# Altium schematic symbol library schematic_library.SchLib: 199 symbols (part 2 of 2)
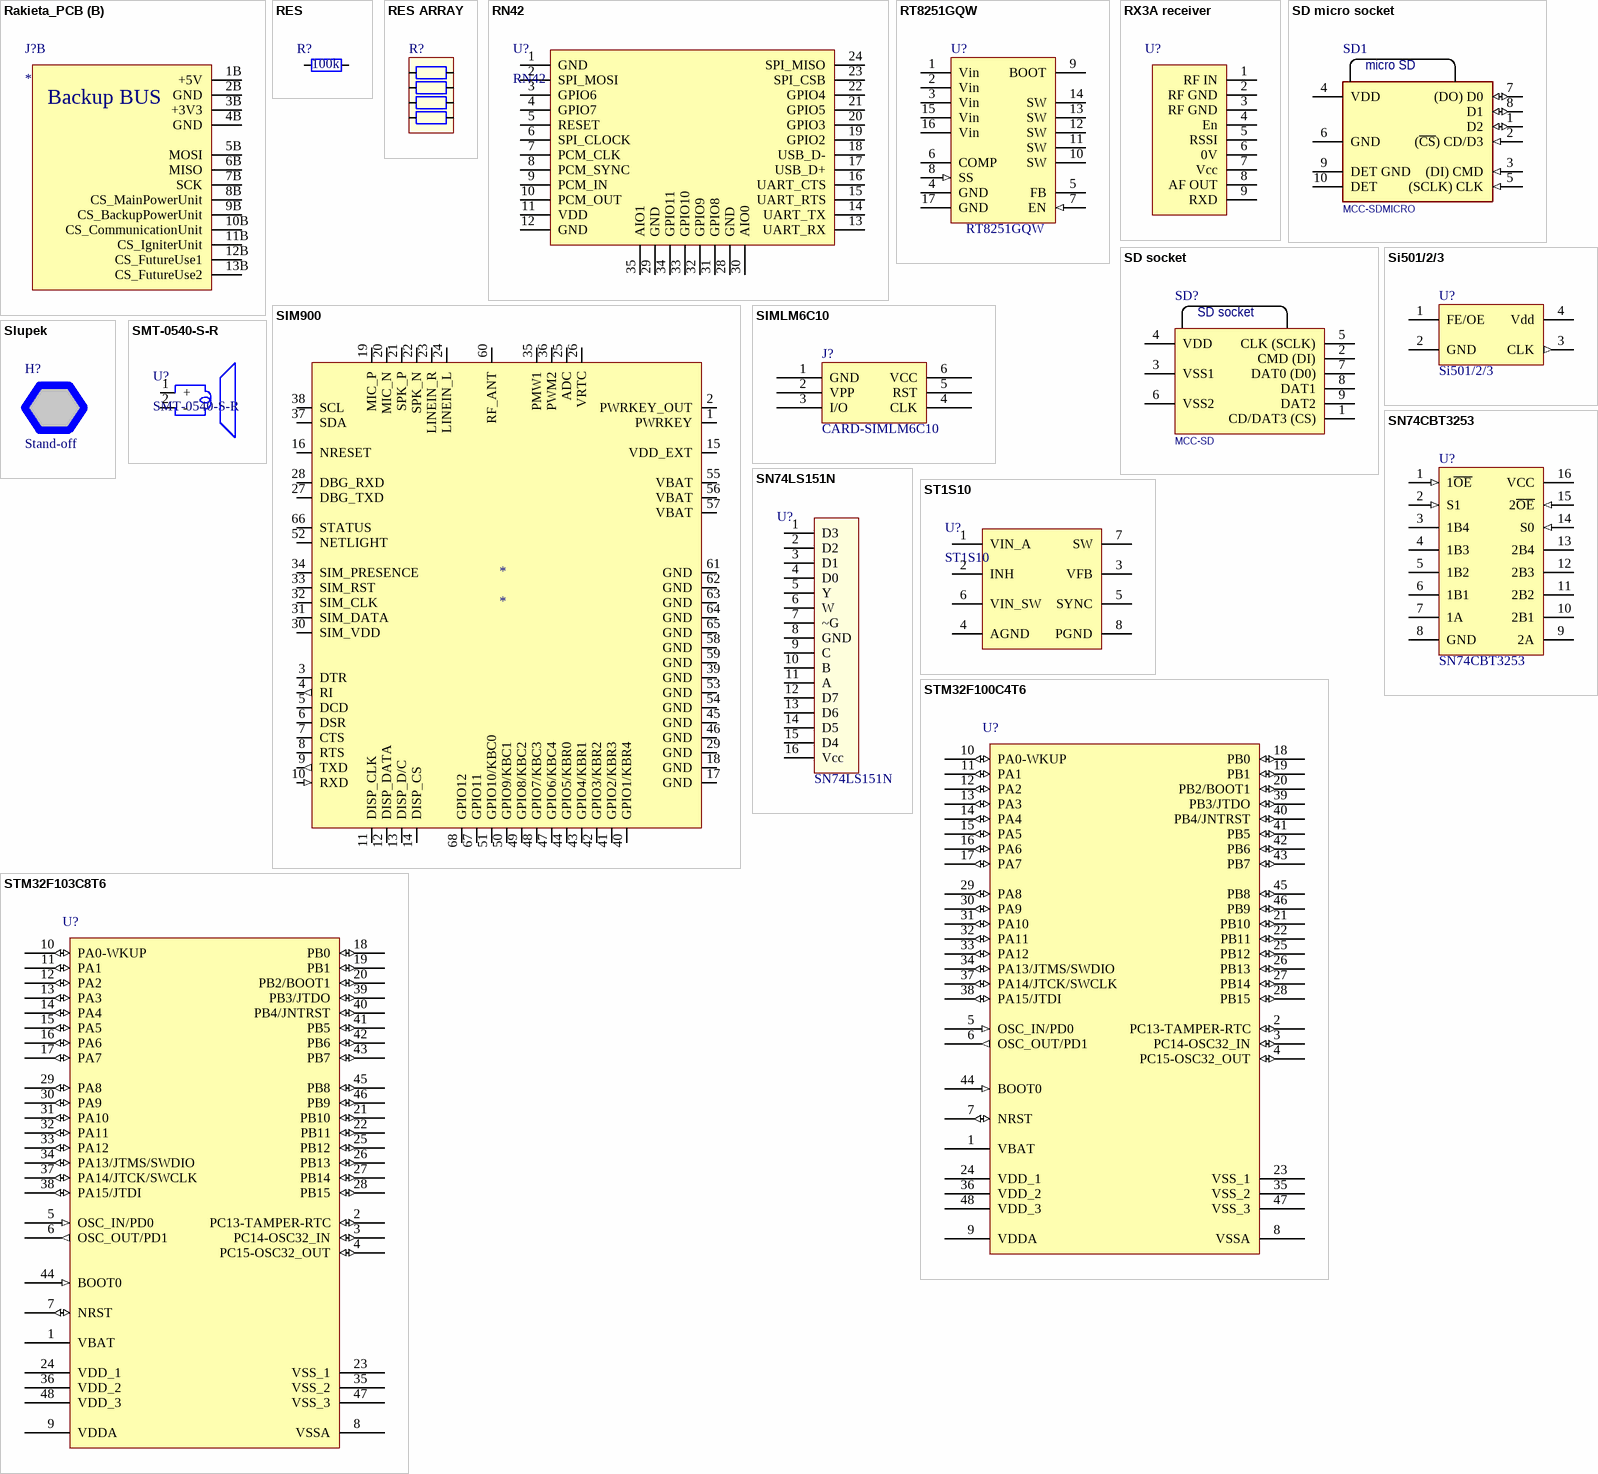
[diagram p7: symbols Rakieta_PCB to STM32F103C8T6]

## SD socket
designator SD?, comment MCC-SD
podstawka SD, TME Producent: ATTEND Oznaczenie producenta: 104C-TAA0-R
footprint SD (SD card slot)
pins: 1 CD/DAT3 (CS), 2 CMD (DI), 3 VSS1 (power), 4 VDD (power), 5 CLK (SCLK), 6 VSS2 (power), 7 DAT0 (D0), 8 DAT1, 9 DAT2

## Si501/2/3
designator U?
32 KHZ–100 MHZ CMEMS OSCILLATOR; Created by: Piotr Błachnio
footprint DFN-4 (2x2.5) (2 x 2.5 mm 4-pin DFN)
pins: 1 FE/OE, 2 GND (power), 3 CLK (out), 4 Vdd (power)

## SIM900
designator *
footprint SIM900
pins: 1 PWRKEY, 2 PWRKEY_OUT, 3 DTR, 4 RI (out), 5 DCD, 6 DSR, 7 CTS, 8 RTS, 9 TXD (out), 10 RXD (in), 11 DISP_CLK, 12 DISP_DATA, 13 DISP_D/C, 14 DISP_CS, 15 VDD_EXT, 16 NRESET, 17 GND, 18 GND, 19 MIC_P, 20 MIC_N, 21 SPK_P, 22 SPK_N, 23 LINEIN_R, 24 LINEIN_L, 25 ADC, 26 VRTC, 27 DBG_TXD, 28 DBG_RXD, 29 GND, 30 SIM_VDD, 31 SIM_DATA, 32 SIM_CLK, 33 SIM_RST, 34 SIM_PRESENCE, 35 PMW1, 36 PWM2, 37 SDA, 38 SCL, 39 GND, 40 GPIO1/KBR4, 41 GPIO2/KBR3, 42 GPIO3/KBR2, 43 GPIO4/KBR1, 44 GPIO5/KBR0, 45 GND, 46 GND, 47 GPIO6/KBC4, 48 GPIO7/KBC3, 49 GPIO8/KBC2, 50 GPIO9/KBC1, 51 GPIO10/KBC0, 52 NETLIGHT, 53 GND, 54 GND, 55 VBAT, 56 VBAT, 57 VBAT, 58 GND, 59 GND, 60 RF_ANT, 61 GND, 62 GND, 63 GND, 64 GND, 65 GND, 66 STATUS, 67 GPIO11, 68 GPIO12

## SIMLM6C10
designator J?, comment CARD-SIMLM6C10
Złącze karty SIM
footprint SIMLM6C10
pins: 1 GND, 2 VPP, 3 I/O, 4 CLK, 5 RST, 6 VCC

## Slupek
designator H?, comment Stand-off
Stand-off element
footprint Slupek_5 (M3, 5.5mm width)
footprint Slupek_6 (M3, 5.5mm width)
footprint Slupek_8 (M3, 5.5mm width)
footprint Slupek_10 (M3, 5.5mm width)
footprint Slupek_12 (M3, 5.5mm width)
footprint Slupek_14 (M3, 5.5mm width)
footprint Slupek_16 (M3, 5.5mm width)
footprint Slupek_16 (M3, 5.5mm width)
footprint Slupek_18 (M3, 5.5mm width)
footprint Slupek_20 (M3, 5.5mm width)
footprint Slupek_25 (M3, 5.5mm width)
footprint Slupek_30 (M3, 5.5mm width)
footprint Slupek_35 (M3, 5.5mm width)
footprint Slupek_40 (M3, 5.5mm width)
footprint Slupek_45 (M3, 5.5mm width)
footprint Slupek_45 (M3, 5.5mm width)
footprint Slupek_50 (M3, 5.5mm width)
footprint Slupek_55 (M3, 5.5mm width)
footprint Slupek_60 (M3, 5.5mm width)
footprint Slupek_60 (M3, 5.5mm width)
footprint Slupek_70 (M3, 5.5mm width)
footprint Slupek_80 (M3, 5.5mm width)
footprint Slupek_100 (M3, 5.5mm width)

## SMT-0540-S-R
designator U?
Magnetic buzzer
footprint SMT-0540-S-R
pins: 1 +, 2 -

## SN74CBT3253
designator U?
Dual 1-of-4 FET analog multiplexer/demultiplexer; Created by: Jacek Skarzyński
footprint TSSOP16
pins: 1 1~{OE} (in), 2 S1 (in), 3 1B4, 4 1B3, 5 1B2, 6 1B1, 7 1A, 8 GND (power), 9 2A, 10 2B1, 11 2B2, 12 2B3, 13 2B4, 14 S0 (in), 15 2~{OE} (in), 16 VCC (power)

## SN74LS151N
designator U?
Data selector
pins: 1 D3, 2 D2, 3 D1, 4 D0, 5 Y, 6 W, 7 ~G, 8 GND, 9 C, 10 B, 11 A, 12 D7, 13 D6, 14 D5, 15 D4, 16 Vcc

## ST1S10
designator U?
3 A, 900 kHz, monolithic synchronous  step-down regulator IC
footprint SO-8_N
footprint SO8_power_Pad (PowerSO8)
pins: 1 VIN_A, 2 INH, 3 VFB, 4 AGND (power), 5 SYNC, 6 VIN_SW, 7 SW, 8 PGND (power)

## STM32F100C4T6
designator U?
STM32 ARM-based 32-bit MCU with 32 Kbytes Flash, 48-pin LQFP, Industrial Temperature; Published: 30-May-2008; DatasheetVersion: rev6, Mar-2008; PackageVersion: Mar-2008; PackageReference: LQFP48; Publisher: Altium Limited; PackageDescription: 48-Pin Low-Profile Quad Flat Pack, 7 x 7 mm Body, 0.5 mm Pitch (LQFP48); ComponentLink1Description: Manufacturer Link; ComponentLink1URL: www.st.com/stm32; ComponentLink2Description: Datasheet; ComponentLink2URL: http://www.st.com/stonline/products/literature/ds/13586.pdf
footprint LQFP48_L (Thin QFP, 48-Leads, Body 7x7mm, Pitch 0.5mm, IPC High Density)
pins: 1 VBAT (power), 2 PC13-TAMPER-RTC (io), 3 PC14-OSC32_IN (io), 4 PC15-OSC32_OUT (io), 5 OSC_IN/PD0 (in), 6 OSC_OUT/PD1 (out), 7 NRST (io), 8 VSSA (power), 9 VDDA (power), 10 PA0-WKUP (io), 11 PA1 (io), 12 PA2 (io), 13 PA3 (io), 14 PA4 (io), 15 PA5 (io), 16 PA6 (io), 17 PA7 (io), 18 PB0 (io), 19 PB1 (io), 20 PB2/BOOT1 (io), 21 PB10 (io), 22 PB11 (io), 23 VSS_1 (power), 24 VDD_1 (power), 25 PB12 (io), 26 PB13 (io), 27 PB14 (io), 28 PB15 (io), 29 PA8 (io), 30 PA9 (io), 31 PA10 (io), 32 PA11 (io), 33 PA12 (io), 34 PA13/JTMS/SWDIO (io), 35 VSS_2 (power), 36 VDD_2 (power), 37 PA14/JTCK/SWCLK (io), 38 PA15/JTDI (io), 39 PB3/JTDO (io), 40 PB4/JNTRST (io), 41 PB5 (io), 42 PB6 (io), 43 PB7 (io), 44 BOOT0 (in), 45 PB8 (io), 46 PB9 (io), 47 VSS_3 (power), 48 VDD_3 (power)

## STM32F103C8T6
designator U?
STM32 ARM-based 32-bit MCU with 64 Kbytes Flash, 48-pin LQFP, Industrial Temperature; Published: 30-May-2008; DatasheetVersion: rev6, Mar-2008; PackageVersion: Mar-2008; PackageReference: LQFP48; Publisher: Altium Limited; PackageDescription: 48-Pin Low-Profile Quad Flat Pack, 7 x 7 mm Body, 0.5 mm Pitch (LQFP48); ComponentLink1Description: Manufacturer Link; ComponentLink1URL: www.st.com/stm32; ComponentLink2Description: Datasheet; ComponentLink2URL: http://www.st.com/stonline/products/literature/ds/13587.pdf
footprint LQFP48_L (Thin QFP, 48-Leads, Body 7x7mm, Pitch 0.5mm, IPC High Density)
pins: 1 VBAT (power), 2 PC13-TAMPER-RTC (io), 3 PC14-OSC32_IN (io), 4 PC15-OSC32_OUT (io), 5 OSC_IN/PD0 (in), 6 OSC_OUT/PD1 (out), 7 NRST (io), 8 VSSA (power), 9 VDDA (power), 10 PA0-WKUP (io), 11 PA1 (io), 12 PA2 (io), 13 PA3 (io), 14 PA4 (io), 15 PA5 (io), 16 PA6 (io), 17 PA7 (io), 18 PB0 (io), 19 PB1 (io), 20 PB2/BOOT1 (io), 21 PB10 (io), 22 PB11 (io), 23 VSS_1 (power), 24 VDD_1 (power), 25 PB12 (io), 26 PB13 (io), 27 PB14 (io), 28 PB15 (io), 29 PA8 (io), 30 PA9 (io), 31 PA10 (io), 32 PA11 (io), 33 PA12 (io), 34 PA13/JTMS/SWDIO (io), 35 VSS_2 (power), 36 VDD_2 (power), 37 PA14/JTCK/SWCLK (io), 38 PA15/JTDI (io), 39 PB3/JTDO (io), 40 PB4/JNTRST (io), 41 PB5 (io), 42 PB6 (io), 43 PB7 (io), 44 BOOT0 (in), 45 PB8 (io), 46 PB9 (io), 47 VSS_3 (power), 48 VDD_3 (power)

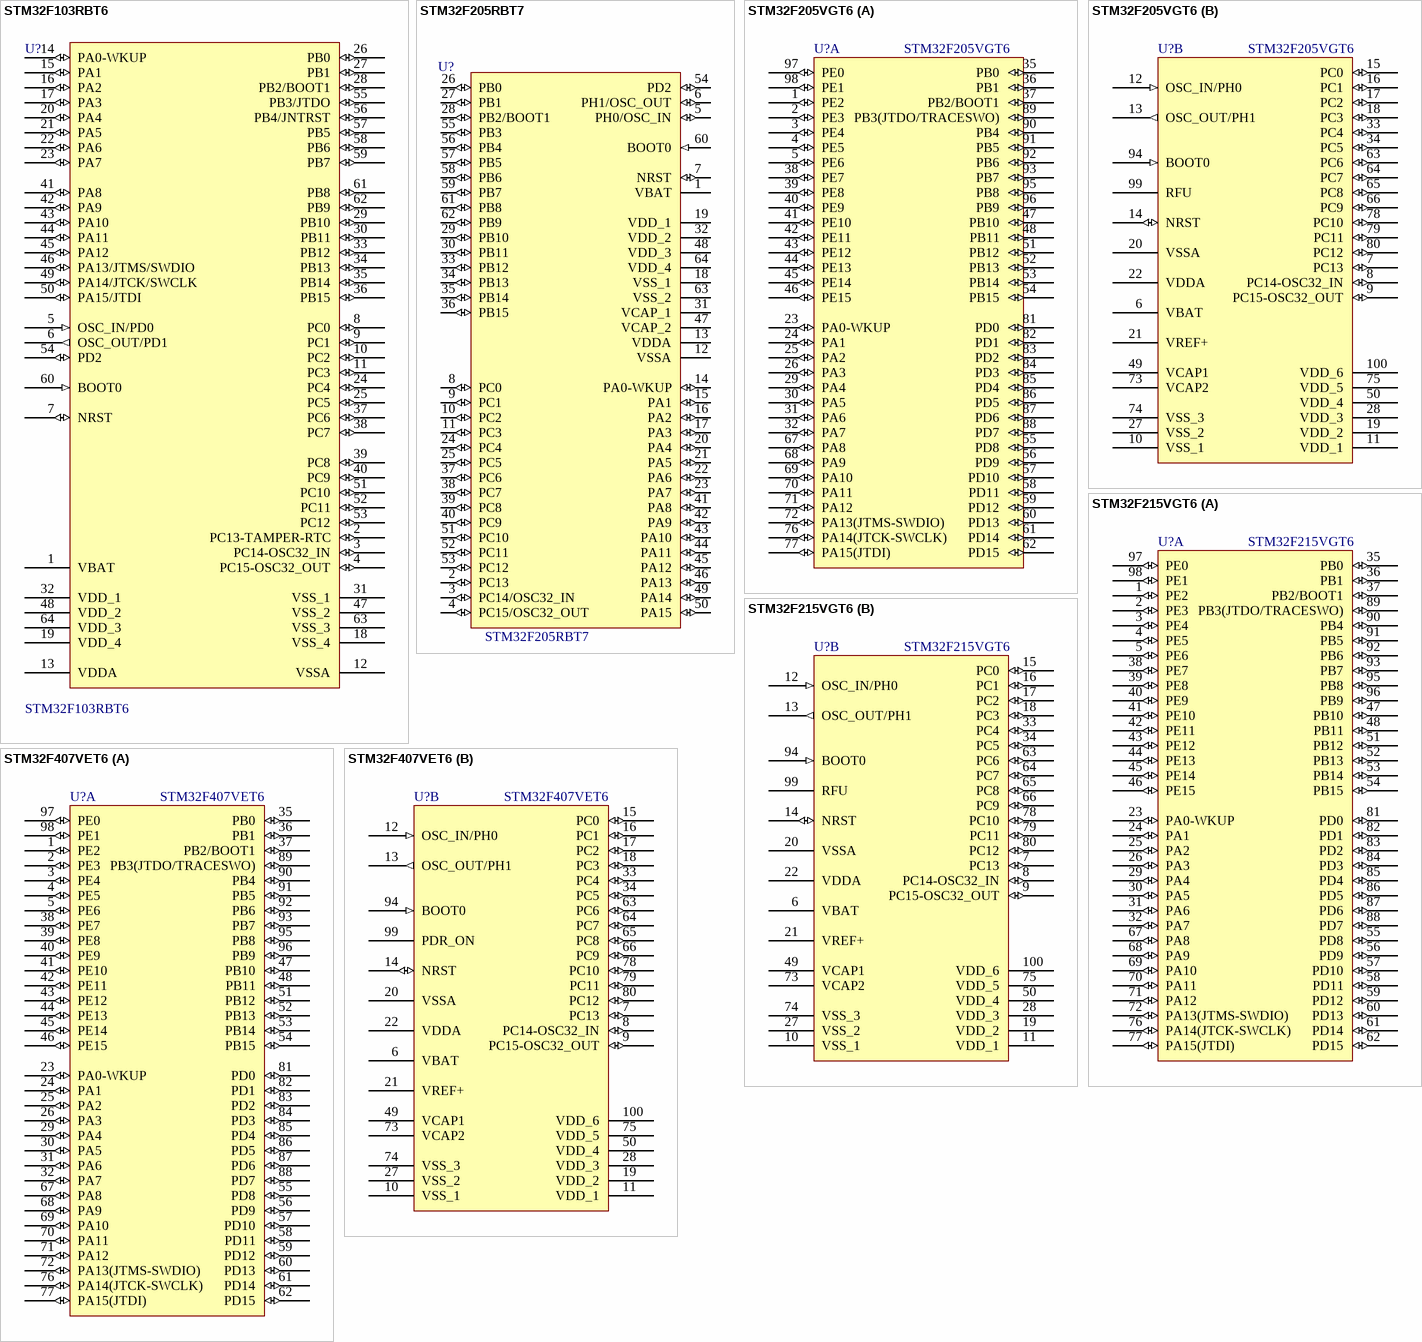
[diagram p5: symbols STM32F103RBT6 to STM32F407VET6]

## STM32F103RBT6
designator U?
STM32 ARM-based 32-bit; Published: 30-May-2008; DatasheetVersion: rev6, Mar-2008; PackageVersion: Mar-2008; PackageReference: LQFP64; Publisher: Altium Limited; PackageDescription: 64-Pin Low-Profile Quad Flat Pack, 10 x 10 mm Body, 0.5 mm Pitch (LQFP64); ComponentLink1Description: Manufacturer Link; ComponentLink1URL: www.st.com/stm32; ComponentLink2Description: Datasheet; ComponentLink2URL: http://www.st.com/stonline/products/literature/ds/13587.pdf
footprint LQFP64_L (Thin QFP, 64-Leads, Body 10x10mm, Pitch 0.5mm, IPC High Density)
pins: 1 VBAT (power), 2 PC13-TAMPER-RTC (io), 3 PC14-OSC32_IN (io), 4 PC15-OSC32_OUT (io), 5 OSC_IN/PD0 (in), 6 OSC_OUT/PD1 (out), 7 NRST (io), 8 PC0 (io), 9 PC1 (io), 10 PC2 (io), 11 PC3 (io), 12 VSSA (power), 13 VDDA (power), 14 PA0-WKUP (io), 15 PA1 (io), 16 PA2 (io), 17 PA3 (io), 18 VSS_4 (power), 19 VDD_4 (power), 20 PA4 (io), 21 PA5 (io), 22 PA6 (io), 23 PA7 (io), 24 PC4 (io), 25 PC5 (io), 26 PB0 (io), 27 PB1 (io), 28 PB2/BOOT1 (io), 29 PB10 (io), 30 PB11 (io), 31 VSS_1 (power), 32 VDD_1 (power), 33 PB12 (io), 34 PB13 (io), 35 PB14 (io), 36 PB15 (io), 37 PC6 (io), 38 PC7 (io), 39 PC8 (io), 40 PC9 (io), 41 PA8 (io), 42 PA9 (io), 43 PA10 (io), 44 PA11 (io), 45 PA12 (io), 46 PA13/JTMS/SWDIO (io), 47 VSS_2 (power), 48 VDD_2 (power), 49 PA14/JTCK/SWCLK (io), 50 PA15/JTDI (io), 51 PC10 (io), 52 PC11 (io), 53 PC12 (io), 54 PD2 (io), 55 PB3/JTDO (io), 56 PB4/JNTRST (io), 57 PB5 (io), 58 PB6 (io), 59 PB7 (io), 60 BOOT0 (in), 61 PB8 (io), 62 PB9 (io), 63 VSS_3 (power), 64 VDD_3 (power)

## STM32F205RBT7
designator U?
STM32 ARM-based 32-bit
footprint LQFP64_N (Thin QFP, 64-Leads, Body 10x10mm, Pitch 0.5mm, IPC Medium Density)
pins: 1 VBAT (power), 2 PC13 (io), 3 PC14/OSC32_IN (io), 4 PC15/OSC32_OUT (io), 5 PH0/OSC_IN (io), 6 PH1/OSC_OUT (io), 7 NRST (io), 8 PC0 (io), 9 PC1 (io), 10 PC2 (io), 11 PC3 (io), 12 VSSA (power), 13 VDDA (power), 14 PA0-WKUP (io), 15 PA1 (io), 16 PA2 (io), 17 PA3 (io), 18 VSS_1 (power), 19 VDD_1 (power), 20 PA4 (io), 21 PA5 (io), 22 PA6 (io), 23 PA7 (io), 24 PC4 (io), 25 PC5 (io), 26 PB0 (io), 27 PB1 (io), 28 PB2/BOOT1 (io), 29 PB10 (io), 30 PB11 (io), 31 VCAP_1 (power), 32 VDD_2 (power), 33 PB12 (io), 34 PB13 (io), 35 PB14 (io), 36 PB15 (io), 37 PC6 (io), 38 PC7 (io), 39 PC8 (io), 40 PC9 (io), 41 PA8 (io), 42 PA9 (io), 43 PA10 (io), 44 PA11 (io), 45 PA12 (io), 46 PA13 (io), 47 VCAP_2 (power), 48 VDD_3 (power), 49 PA14 (io), 50 PA15 (io), 51 PC10 (io), 52 PC11 (io), 53 PC12 (io), 54 PD2 (io), 55 PB3 (io), 56 PB4 (io), 57 PB5 (io), 58 PB6 (io), 59 PB7 (io), 60 BOOT0 (in), 61 PB8 (io), 62 PB9 (io), 63 VSS_2 (power), 64 VDD_4 (power)

## STM32F205VGT6
designator U?
ARM-based 32-bit MCU, 150DMIPs, up to 1 MB Flash/128+4KB RAM, USB  OTG HS/FS, Ethernet, 17 TIMs, 3 ADCs; DatasheetVersion: rev6, Mar-2008; PackageDescription: 100 pins LQFP; ComponentLink1Description: Manufacturer Link; ComponentLink1URL: www.st.com/stm32; ComponentLink2Description: Datasheet
footprint LQFP100
part A pins: 1 PE2 (io), 2 PE3 (io), 3 PE4 (io), 4 PE5 (io), 5 PE6 (io), 23 PA0-WKUP (io), 24 PA1 (io), 25 PA2 (io), 26 PA3 (io), 29 PA4 (io), 30 PA5 (io), 31 PA6 (io), 32 PA7 (io), 35 PB0 (io), 36 PB1 (io), 37 PB2/BOOT1 (io), 38 PE7 (io), 39 PE8 (io), 40 PE9 (io), 41 PE10 (io), 42 PE11 (io), 43 PE12 (io), 44 PE13 (io), 45 PE14 (io), 46 PE15 (io), 47 PB10 (io), 48 PB11 (io), 51 PB12 (io), 52 PB13 (io), 53 PB14 (io), 54 PB15 (io), 55 PD8 (io), 56 PD9 (io), 57 PD10 (io), 58 PD11 (io), 59 PD12 (io), 60 PD13 (io), 61 PD14 (io), 62 PD15 (io), 67 PA8 (io), 68 PA9 (io), 69 PA10 (io), 70 PA11 (io), 71 PA12 (io), 72 PA13(JTMS-SWDIO) (io), 76 PA14(JTCK-SWCLK) (io), 77 PA15(JTDI) (io), 81 PD0 (io), 82 PD1 (io), 83 PD2 (io), 84 PD3 (io), 85 PD4 (io), 86 PD5 (io), 87 PD6 (io), 88 PD7 (io), 89 PB3(JTDO/TRACESWO) (io), 90 PB4 (io), 91 PB5 (io), 92 PB6 (io), 93 PB7 (io), 95 PB8 (io), 96 PB9 (io), 97 PE0 (io), 98 PE1 (io)
part B pins: 6 VBAT (power), 7 PC13 (io), 8 PC14-OSC32_IN (io), 9 PC15-OSC32_OUT (io), 10 VSS_1 (power), 11 VDD_1 (power), 12 OSC_IN/PH0 (in), 13 OSC_OUT/PH1 (out), 14 NRST (io), 15 PC0 (io), 16 PC1 (io), 17 PC2 (io), 18 PC3 (io), 19 VDD_2 (power), 20 VSSA (power), 21 VREF+ (power), 22 VDDA (power), 27 VSS_2 (power), 28 VDD_3 (power), 33 PC4 (io), 34 PC5 (io), 49 VCAP1 (power), 50 VDD_4 (power), 63 PC6 (io), 64 PC7 (io), 65 PC8 (io), 66 PC9 (io), 73 VCAP2 (power), 74 VSS_3 (power), 75 VDD_5 (power), 78 PC10 (io), 79 PC11 (io), 80 PC12 (io), 94 BOOT0 (in), 99 RFU, 100 VDD_6 (power)

## STM32F215VGT6
designator U?
ARM-based 32-bit MCU, 150DMIPs, up to 1 MB Flash/128+4KB RAM, crypto, USB  OTG HS/FS, Ethernet, 17 TIMs, 3 ADCs; PackageDescription: 100 pins LQFP; ComponentLink1Description: Manufacturer Link; ComponentLink1URL: www.st.com/stm32; ComponentLink2Description: Datasheet
footprint LQFP100
part A pins: 1 PE2 (io), 2 PE3 (io), 3 PE4 (io), 4 PE5 (io), 5 PE6 (io), 23 PA0-WKUP (io), 24 PA1 (io), 25 PA2 (io), 26 PA3 (io), 29 PA4 (io), 30 PA5 (io), 31 PA6 (io), 32 PA7 (io), 35 PB0 (io), 36 PB1 (io), 37 PB2/BOOT1 (io), 38 PE7 (io), 39 PE8 (io), 40 PE9 (io), 41 PE10 (io), 42 PE11 (io), 43 PE12 (io), 44 PE13 (io), 45 PE14 (io), 46 PE15 (io), 47 PB10 (io), 48 PB11 (io), 51 PB12 (io), 52 PB13 (io), 53 PB14 (io), 54 PB15 (io), 55 PD8 (io), 56 PD9 (io), 57 PD10 (io), 58 PD11 (io), 59 PD12 (io), 60 PD13 (io), 61 PD14 (io), 62 PD15 (io), 67 PA8 (io), 68 PA9 (io), 69 PA10 (io), 70 PA11 (io), 71 PA12 (io), 72 PA13(JTMS-SWDIO) (io), 76 PA14(JTCK-SWCLK) (io), 77 PA15(JTDI) (io), 81 PD0 (io), 82 PD1 (io), 83 PD2 (io), 84 PD3 (io), 85 PD4 (io), 86 PD5 (io), 87 PD6 (io), 88 PD7 (io), 89 PB3(JTDO/TRACESWO) (io), 90 PB4 (io), 91 PB5 (io), 92 PB6 (io), 93 PB7 (io), 95 PB8 (io), 96 PB9 (io), 97 PE0 (io), 98 PE1 (io)
part B pins: 6 VBAT (power), 7 PC13 (io), 8 PC14-OSC32_IN (io), 9 PC15-OSC32_OUT (io), 10 VSS_1 (power), 11 VDD_1 (power), 12 OSC_IN/PH0 (in), 13 OSC_OUT/PH1 (out), 14 NRST (io), 15 PC0 (io), 16 PC1 (io), 17 PC2 (io), 18 PC3 (io), 19 VDD_2 (power), 20 VSSA (power), 21 VREF+ (power), 22 VDDA (power), 27 VSS_2 (power), 28 VDD_3 (power), 33 PC4 (io), 34 PC5 (io), 49 VCAP1 (power), 50 VDD_4 (power), 63 PC6 (io), 64 PC7 (io), 65 PC8 (io), 66 PC9 (io), 73 VCAP2 (power), 74 VSS_3 (power), 75 VDD_5 (power), 78 PC10 (io), 79 PC11 (io), 80 PC12 (io), 94 BOOT0 (in), 99 RFU, 100 VDD_6 (power)

## STM32F407VET6
designator U?
ARM Cortex-M4 32b MCU+FPU, 210DMIPS, up to 1MB Flash/192+4KB RAM,  USB OTG HS/FS, Ethernet, 17 TIMs, 3 ADCs, 15 comm. interfaces & camera; DatasheetVersion: rev6, Mar-2008; PackageDescription: 100 pins LQFP; ComponentLink1Description: Manufacturer Link; ComponentLink1URL: www.st.com/stm32; ComponentLink2Description: Datasheet
footprint LQFP100
part A pins: 1 PE2 (io), 2 PE3 (io), 3 PE4 (io), 4 PE5 (io), 5 PE6 (io), 23 PA0-WKUP (io), 24 PA1 (io), 25 PA2 (io), 26 PA3 (io), 29 PA4 (io), 30 PA5 (io), 31 PA6 (io), 32 PA7 (io), 35 PB0 (io), 36 PB1 (io), 37 PB2/BOOT1 (io), 38 PE7 (io), 39 PE8 (io), 40 PE9 (io), 41 PE10 (io), 42 PE11 (io), 43 PE12 (io), 44 PE13 (io), 45 PE14 (io), 46 PE15 (io), 47 PB10 (io), 48 PB11 (io), 51 PB12 (io), 52 PB13 (io), 53 PB14 (io), 54 PB15 (io), 55 PD8 (io), 56 PD9 (io), 57 PD10 (io), 58 PD11 (io), 59 PD12 (io), 60 PD13 (io), 61 PD14 (io), 62 PD15 (io), 67 PA8 (io), 68 PA9 (io), 69 PA10 (io), 70 PA11 (io), 71 PA12 (io), 72 PA13(JTMS-SWDIO) (io), 76 PA14(JTCK-SWCLK) (io), 77 PA15(JTDI) (io), 81 PD0 (io), 82 PD1 (io), 83 PD2 (io), 84 PD3 (io), 85 PD4 (io), 86 PD5 (io), 87 PD6 (io), 88 PD7 (io), 89 PB3(JTDO/TRACESWO) (io), 90 PB4 (io), 91 PB5 (io), 92 PB6 (io), 93 PB7 (io), 95 PB8 (io), 96 PB9 (io), 97 PE0 (io), 98 PE1 (io)
part B pins: 6 VBAT (power), 7 PC13 (io), 8 PC14-OSC32_IN (io), 9 PC15-OSC32_OUT (io), 10 VSS_1 (power), 11 VDD_1 (power), 12 OSC_IN/PH0 (in), 13 OSC_OUT/PH1 (out), 14 NRST (io), 15 PC0 (io), 16 PC1 (io), 17 PC2 (io), 18 PC3 (io), 19 VDD_2 (power), 20 VSSA (power), 21 VREF+ (power), 22 VDDA (power), 27 VSS_2 (power), 28 VDD_3 (power), 33 PC4 (io), 34 PC5 (io), 49 VCAP1 (power), 50 VDD_4 (power), 63 PC6 (io), 64 PC7 (io), 65 PC8 (io), 66 PC9 (io), 73 VCAP2 (power), 74 VSS_3 (power), 75 VDD_5 (power), 78 PC10 (io), 79 PC11 (io), 80 PC12 (io), 94 BOOT0 (in), 99 PDR_ON, 100 VDD_6 (power)

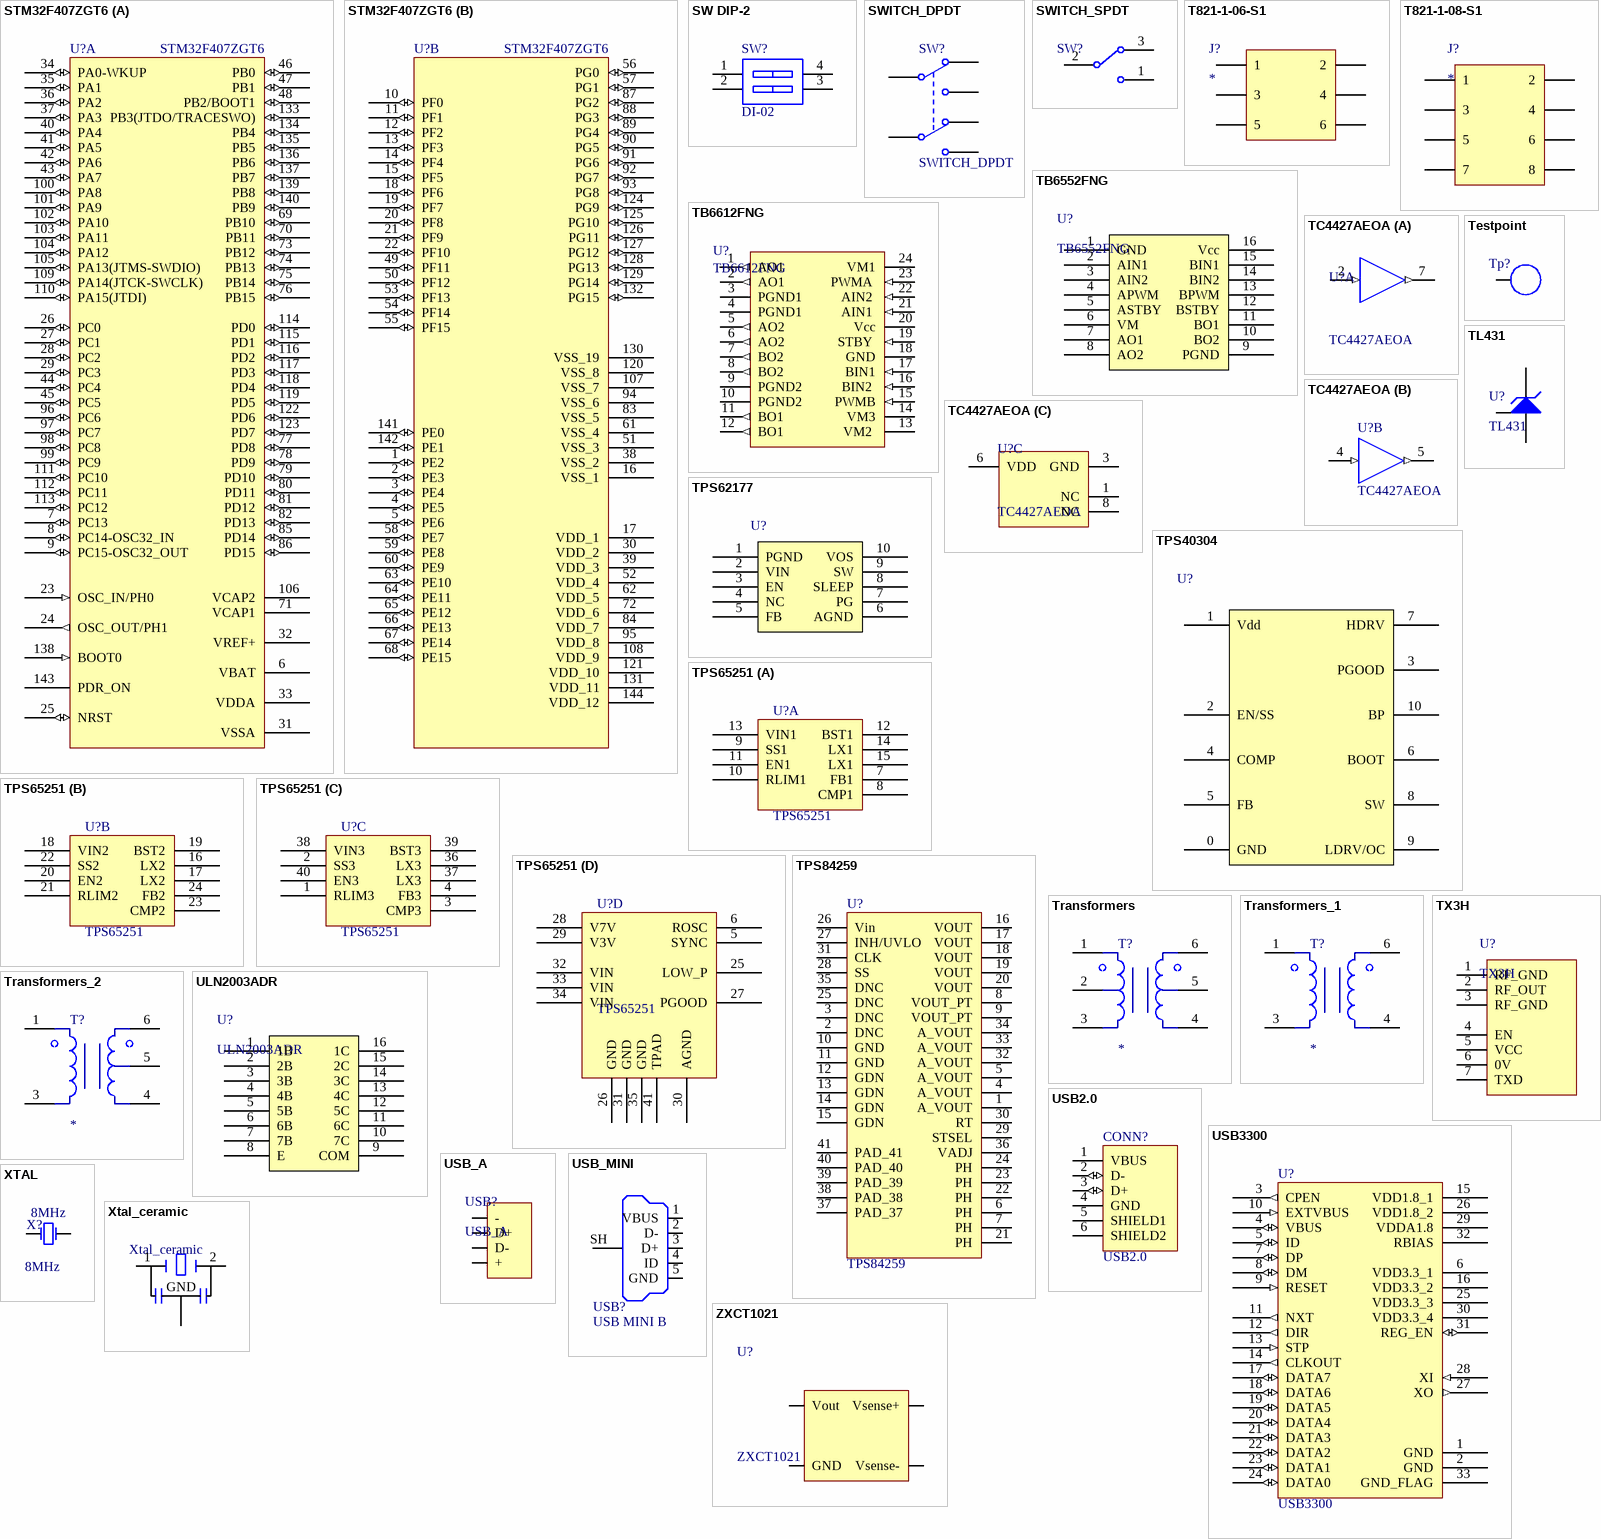
[diagram p6: symbols STM32F407ZGT6 to ZXCT1021]

## STM32F407ZGT6
designator U?
ARM Cortex-M4 32b MCU+FPU, 210DMIPS, up to 1MB Flash/192+4KB RAM,  USB OTG HS/FS, Ethernet, 17 TIMs, 3 ADCs, 15 comm. interfaces & camera; DatasheetVersion: rev6, Mar-2008; PackageDescription: 100 pins LQFP; ComponentLink1Description: Manufacturer Link; ComponentLink1URL: www.st.com/stm32; ComponentLink2Description: Datasheet
footprint LQFP144
part A pins: 6 VBAT (power), 7 PC13 (io), 8 PC14-OSC32_IN (io), 9 PC15-OSC32_OUT (io), 23 OSC_IN/PH0 (in), 24 OSC_OUT/PH1 (out), 25 NRST (io), 26 PC0 (io), 27 PC1 (io), 28 PC2 (io), 29 PC3 (io), 31 VSSA (power), 32 VREF+ (power), 33 VDDA (power), 34 PA0-WKUP (io), 35 PA1 (io), 36 PA2 (io), 37 PA3 (io), 40 PA4 (io), 41 PA5 (io), 42 PA6 (io), 43 PA7 (io), 44 PC4 (io), 45 PC5 (io), 46 PB0 (io), 47 PB1 (io), 48 PB2/BOOT1 (io), 69 PB10 (io), 70 PB11 (io), 71 VCAP1 (power), 73 PB12 (io), 74 PB13 (io), 75 PB14 (io), 76 PB15 (io), 77 PD8 (io), 78 PD9 (io), 79 PD10 (io), 80 PD11 (io), 81 PD12 (io), 82 PD13 (io), 85 PD14 (io), 86 PD15 (io), 96 PC6 (io), 97 PC7 (io), 98 PC8 (io), 99 PC9 (io), 100 PA8 (io), 101 PA9 (io), 102 PA10 (io), 103 PA11 (io), 104 PA12 (io), 105 PA13(JTMS-SWDIO) (io), 106 VCAP2 (power), 109 PA14(JTCK-SWCLK) (io), 110 PA15(JTDI) (io), 111 PC10 (io), 112 PC11 (io), 113 PC12 (io), 114 PD0 (io), 115 PD1 (io), 116 PD2 (io), 117 PD3 (io), 118 PD4 (io), 119 PD5 (io), 122 PD6 (io), 123 PD7 (io), 133 PB3(JTDO/TRACESWO) (io), 134 PB4 (io), 135 PB5 (io), 136 PB6 (io), 137 PB7 (io), 138 BOOT0 (in), 139 PB8 (io), 140 PB9 (io), 143 PDR_ON
part B pins: 1 PE2 (io), 2 PE3 (io), 3 PE4 (io), 4 PE5 (io), 5 PE6 (io), 10 PF0 (io), 11 PF1 (io), 12 PF2 (io), 13 PF3 (io), 14 PF4 (io), 15 PF5 (io), 16 VSS_1 (power), 17 VDD_1 (power), 18 PF6 (io), 19 PF7 (io), 20 PF8 (io), 21 PF9 (io), 22 PF10 (io), 30 VDD_2 (power), 38 VSS_2 (power), 39 VDD_3 (power), 49 PF11 (io), 50 PF12 (io), 51 VSS_3 (power), 52 VDD_4 (power), 53 PF13 (io), 54 PF14 (io), 55 PF15 (io), 56 PG0 (io), 57 PG1 (io), 58 PE7 (io), 59 PE8 (io), 60 PE9 (io), 61 VSS_4 (power), 62 VDD_5 (power), 63 PE10 (io), 64 PE11 (io), 65 PE12 (io), 66 PE13 (io), 67 PE14 (io), 68 PE15 (io), 72 VDD_6 (power), 83 VSS_5 (power), 84 VDD_7 (power), 87 PG2 (io), 88 PG3 (io), 89 PG4 (io), 90 PG5 (io), 91 PG6 (io), 92 PG7 (io), 93 PG8 (io), 94 VSS_6 (power), 95 VDD_8 (power), 107 VSS_7 (power), 108 VDD_9 (power), 120 VSS_8 (power), 121 VDD_10 (power), 124 PG9 (io), 125 PG10 (io), 126 PG11 (io), 127 PG12 (io), 128 PG13 (io), 129 PG14 (io), 130 VSS_19 (power), 131 VDD_11 (power), 132 PG15 (io), 141 PE0 (io), 142 PE1 (io), 144 VDD_12 (power)

## SW DIP-2
designator SW?, comment DI-02
DIP Switch, 2 Position, SPST; Published: 24-Mar-1999; LatestRevisionDate: 17-Jul-2002; LatestRevisionNote: Re-released for DXP Platform.; PackageReference: DIP-4; Publisher: Altium Limited
footprint DI-02 (DIP Switch, 2 Position, Package)
pins: 1 A1, 2 A2, 3 B2, 4 B1

## SWITCH_DPDT
designator SW?
Double pole, double throw; Published: 24-Mar-1999; LatestRevisionDate: 29-May-2009; LatestRevisionNote: IPC-7351 Footprint Added.; PackageVersion: Mar-2001; PackageReference: SOT23-6; Publisher: Altium Limited; PackageDescription: 6-Pin SOT-23 Package 0.95 mm Pitch, 2.7 mm Lead Span; Code_JEITA: SC-74; Code_IPC: SOT26A-6
footprint DPDT (Double pole, double throw)
footprint SS008B02P22 (Przełącznik suwakowy SS008B02P22)
pins: 1 COMMON1, 2 NC1, 3 NO1, 4 NC2, 5 COMMON2, 6 NO2

## SWITCH_SPDT
designator SW?  (value not drawn)
Single pole, double throw
footprint SP3T (SP3T ON-OFF-ON switch)
footprint ESP1010 (ON - ON Switch tht vertical)
footprint ESP2010 (ON - ON Switch tht)
footprint 5MS1S102AM2QE (Slide Switch 5A/120V SPDT)
pins: 1, 2, 3

## T821-1-06-S1
designator J?
Gniazdo; IDC; męskie; PIN:8; proste; THT; złocony; 2,54mm
footprint T821-1-06-S1 (T821-1-08-S1 6 Pin, Men)
pins: 1, 2, 3, 4, 5, 6

## T821-1-08-S1
designator J?
Gniazdo; IDC; męskie; PIN:8; proste; THT; złocony; 2,54mm
footprint T821-1-08-S1 (T821-1-08-S1 8 Pin, Men)
pins: 1, 2, 3, 4, 5, 6, 7, 8

## TB6552FNG
designator U?
Dual-bridge driver for DC motors
footprint SSOP16
pins: 1 GND, 2 AIN1, 3 AIN2, 4 APWM, 5 ASTBY, 6 VM, 7 AO1, 8 AO2, 9 PGND, 10 BO2, 11 BO1, 12 BSTBY, 13 BPWM, 14 BIN2, 15 BIN1, 16 Vcc

## TB6612FNG
designator U?
Driver IC for Dual DC motor
footprint SSOP24-P-300 (SSOP, 24-Leads, Body 8,3x5,8mm (max), Pitch 0,65mm, IPC Medium Density)
pins: 1 AO1 (out) "chA output1", 2 AO1 (out) "chA output1", 3 PGND1  "Power GND 1", 4 PGND1  "Power GND 1", 5 AO2  (out) "chA output2", 6 AO2  (out) "chA output2", 7 BO2  (out) "chB output2", 8 BO2  (out) "chB output2", 9 PGND2 "Power GND 2", 10 PGND2 "Power GND 2", 11 BO1 (out) "chB output1", 12 BO1 (out) "chB output1", 13 VM2  (power) "Motor supply(2.5V~13.5V)", 14 VM3 (power) "Motor supply(2.5V~13.5V)", 15 PWMB (in) "chB PWM input    /    200kOhm  pull-down at internal", 16  BIN2  (in) "chB input2    /    200k?  pull-down at internal", 17  BIN1 (in) "chB input    /    200k?  pull-down at internal", 18 GND "Small signal GND", 19 STBY  (in) "“L”=standby / 200k?  pull-down at internal", 20 Vcc "Small signal supply (2.7V~5.5V)", 21  AIN1  (in) "chA input1    /    200k?  pull-down at internal", 22  AIN2  (in) "chA input2    /    200k?  pull-down at internal", 23 PWMA  (in) "chA PWM input    /    200k?  pull-down at internal", 24 VM1 (power) "Motor supply(2.5V~13.5V)"

## TC4427AEOA
designator U?
1.5A Dual High-Speed Power MOSFET Driver, Non-Inverting, Industrial Temperature; FirstPublished: 29-Jan-2009; DatasheetVersion: revF, Jan-2006; PackageVersion: revBB, Aug-2009; PackageReference: SOIC-OA8; Publisher: Altium Limited; PackageDescription: 8-Lead Plastic Small Outline (OA) - Narrow, 3.90mm Body [SOIC]; Supplier 1: Digi-Key; Supplier Part Number 1: TC4427AEOA-ND; Supplier 2: Farnell; Supplier Part Number 2: 1292285; Supplier 3: Newark; Supplier Part Number 3: 96K4020; Code_IPC: SOIC127P600-8; ComponentLink1Description: Datasheet; ComponentLink1URL: http://ww1.microchip.com/downloads/en/DeviceDoc/21423F.pdf; ComponentLink2Description: Packaging Specification; ComponentLink2URL: http://www.microchip.com/stellent/groups/techpub_sg/documents/packagingspec/en012702.pdf; ComponentLink3Description: Microchip.com Home; ComponentLink3URL: http://www.microchip.com/
footprint SO-8_N
part A pins: 2 INA (in), 7 OUTA (out)
part B pins: 4 INB (in), 5 OUTB (out)
part C pins: 1 NC, 3 GND (power), 6 VDD (power), 8 NC

## Testpoint
designator Tp?, comment Test point  (value not drawn)
1/2 mm Via
footprint Testpoint (1/2mm via)
footprint Testpoint_2x3
pins: 1 TP (power)

## TL431
designator U?
TL431 Precision Programmable Reference
footprint SOT23
pins: 1 K, 2 REF, 3 A

## TPS40304
designator U?  (value not drawn)
3V to 20V input synchronus buck controller
footprint SON 10-Pin
pins: 0 GND, 1 Vdd, 2 EN/SS, 3 PGOOD, 4 COMP, 5 FB, 6 BOOT, 7 HDRV, 8 SW, 9 LDRV/OC, 10 BP

## TPS62177
designator U?  (value not drawn)
28V, 0.5A Step-Down Converter with Sleep Mode
footprint DQC 10 Pin
pins: 1 PGND, 2 VIN, 3 EN, 4 NC, 5 FB, 6 AGND, 7 PG, 8 SLEEP, 9 SW, 10 VOS

## TPS65251
designator U?
SYNCHRONOUS STEP DOWN THREE BUCK  SWITCHER WITH INTEGRATED FET
footprint S-PVQFN-N40 (Texas Instruments QFN, 40-Leads, Body 6,00x6,00mm, Pitch 0,50mm, Thermal Pad 3,52x2,62mm)
part A pins: 7 FB1, 8 CMP1, 9 SS1, 10 RLIM1, 11 EN1, 12 BST1, 13 VIN1, 14 LX1, 15 LX1
part B pins: 16 LX2, 17 LX2, 18 VIN2, 19 BST2, 20 EN2, 21 RLIM2, 22 SS2, 23 CMP2, 24 FB2
part C pins: 1 RLIM3, 2 SS3, 3 CMP3, 4 FB3, 36 LX3, 37 LX3, 38 VIN3, 39 BST3, 40 EN3
part D pins: 5 SYNC, 6 ROSC, 25 LOW_P, 26 GND, 27 PGOOD, 28 V7V, 29 V3V, 30 AGND, 31 GND, 32 VIN, 33 VIN, 34 VIN, 35 GND, 41 TPAD

## TPS84259
designator U?
4.5-V to 40-V Input, 15-W, Negative Output, Integrated Power Solution; Created by: Piotr Błachnio
footprint S-PB1QFN-N41
pins: 1 A_VOUT, 2 DNC, 3 DNC, 4 A_VOUT, 5 A_VOUT, 6 PH, 7 PH, 8 VOUT_PT, 9 VOUT_PT, 10 GND, 11 GND, 12 GDN, 13 GDN, 14 GDN, 15 GDN, 16 VOUT (power), 17 VOUT (power), 18 VOUT (power), 19 VOUT (power), 20 VOUT (power), 21 PH, 22 PH, 23 PH, 24 PH, 25 DNC, 26 Vin (power), 27 INH/UVLO, 28 SS, 29 STSEL, 30 RT, 31 CLK, 32 A_VOUT, 33 A_VOUT, 34 A_VOUT, 35 DNC, 36 VADJ, 37 PAD_37, 38 PAD_38, 39 PAD_39, 40 PAD_40, 41 PAD_41

## Transformers
designator T?
Surface Mount Wideband RF Transformers; Created by: Piotr Błachnio
footprint TRANS_6PIN
pins: 1, 2, 3, 4, 5, 6

## Transformers_1
designator T?
Surface Mount Wideband RF Transformers; Created by: Piotr Błachnio
footprint TRANS_6PIN
pins: 1, 3, 4, 6

## Transformers_2
designator T?
Surface Mount Wideband RF Transformers; Created by: Piotr Błachnio
footprint TRANS_6PIN
pins: 1, 3, 4, 5, 6

## TX3H
designator U?
869.5MHz FM  transmitter module with a nominal  power output of 450mW
footprint TX3H
pins: 1 RF_GND, 2 RF_OUT, 3 RF_GND, 4 EN, 5 VCC, 6 0V, 7 TXD

## ULN2003ADR
designator U?
HIGH-VOLTAGE, HIGH-CURRENT DARLINGTON TRANSISTOR ARRAYS
footprint SO16
pins: 1 1B, 2 2B, 3 3B, 4 4B, 5 5B, 6 6B, 7 7B, 8 E, 9 COM, 10 7C, 11 6C, 12 5C, 13 4C, 14 3C, 15 2C, 16 1C

## USB2.0
designator CONN?
UE27ACX4X0X port usb 2.0; Created by: Piotr Błachnio
footprint USB2.0 (UE27ACX4X0X port USB 2.0)
pins: 1 VBUS (power), 2 D- (io), 3 D+ (io), 4 GND (power), 5 SHIELD1, 6 SHIELD2

## USB3300
designator U?
Hi-Speed (HS) USB Host, Device or OTG PHY with ULPI Low Pin Interface Micrichip
footprint 32QFN (5×5) (32-Lead Plastic QFN (5mm × 5mm))
pins: 1 GND (power), 2 GND (power), 3 CPEN (out), 4 VBUS (io), 5 ID (io), 6 VDD3.3_1 (power), 7 DP (io), 8 DM (io), 9 RESET (in), 10 EXTVBUS (in), 11 NXT (out), 12 DIR (out), 13 STP (in), 14 CLKOUT (out), 15 VDD1.8_1 (power), 16 VDD3.3_2 (power), 17 DATA7 (io), 18 DATA6 (io), 19 DATA5 (io), 20 DATA4 (io), 21 DATA3 (io), 22 DATA2 (io), 23 DATA1 (io), 24 DATA0 (io), 25 VDD3.3_3 (power), 26 VDD1.8_2 (power), 27 XO (out), 28 XI (in), 29 VDDA1.8 (power), 30 VDD3.3_4 (power), 31 REG_EN (io), 32 RBIAS, 33 GND_FLAG (power) "PAD"

## USB_A
designator USB?
USB A SMT Socket
footprint USB_A_SMT
pins: 1 +, 2 D-, 3 D+, 4 -

## USB_MINI
designator USB?, comment USB MINI B
footprint USB_Mini-B_Molex_SMT
pins: 1 VBUS, 2 D-, 3 D+, 4 ID, 5 GND, SH Shell

## XTAL
designator X?, comment 8MHz
Oscillator; Unit Price1: *; Unit Price2: *; Value: 8MHz
footprint HC49/4H_SMX (Quartz Crystal, SM; Body 13.4 (inc. leads) x 4.9 mm (LxW max))
footprint HC49-4H_THT (HC49-4H package for oscillator)
footprint ATS-SM (ATS-SM Quartz Crystal footprint)
footprint 5.0mm x 3.2mm Glass Seal Package (Model 445 Surface Mount Quartz Crystal)
pins: 1 OSC1, 2 OSC2

## Xtal_ceramic
designator Xtal_ceramic  (value not drawn)
Ceramic resonator with smd kwarz and 0603 smd
footprint Cer_res_and_smd_kwarz_and_cap_603
pins: 1 OSC1, 2 OSC2, 3
text: GND

## ZXCT1021
designator U?
Low offset high-side current monitor
footprint SOT23-5_N (SOT23, 5-Leads, Body 2.9x1.6mm, Pitch 0.95mm, Lead Span 2.8mm, IPC Medium Density)
pins: 1 Flag hidden, 2 GND, 3 Vout, 4 Vsense+, 5 Vsense-